# Altium footprint library BD136.PcbLib: 2 footprints
Each footprint in its own frame and in the unit in brackets; x right, y up, seen from the top. Pads: shape width x height; smd on the part's side, far side on the other; paste and mask are expansions set on the pad; w line width, h text height; cw(c..) or ccw(c..) is an arc to the next point about the centre after c.
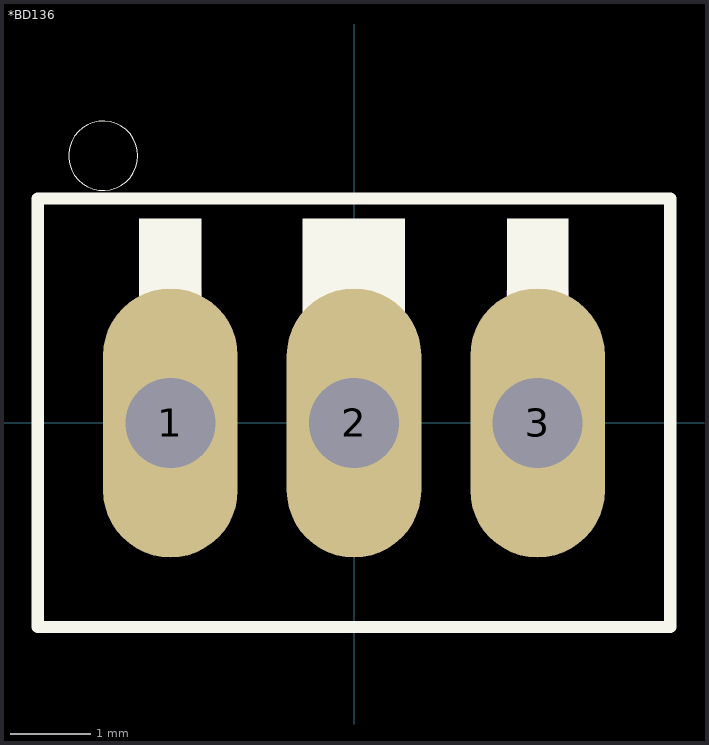
[diagram p0: the footprints below, top view; thin cyan lines are the x and y axes]

## *BD136 [mil]
pads (3):
  oval 66x132 hole 44: 1(-90,0) 2(0,0) 3(90,0)
Top Overlay:
  circle w0: c-123,131 r17
  region: 75.07,100 105,100 105,14.87 75.07,14.87
  region: -15.01,100 15,100 15,14.94 -15.01,14.94
  region: -105.17,100 -75,100 -75,14.78 -105.17,14.78
  region: -25.01,100 25,100 25,29.97 -25.01,29.97
  lines w6: -155,-100 155,-100 155,110 -155,110 -155,-100
Mechanical 13:
  region: 75.01,65 105,65 105,-5.03 75.01,-5.03
  region: -15.03,65 15,65 15,-5.36 -15.03,-5.36
  region: -105.01,65 -75,65 -75,-5.02 -105.01,-5.02
  region: 75.01,65 105,65 105,-5.03 75.01,-5.03
  region: -15.03,65 15,65 15,-5.36 -15.03,-5.36
  region: -105.01,65 -75,65 -75,-5.02 -105.01,-5.02
  text "3" at 70.12,105.1 h73.82
  text "2" at -20.01,105.14 h73.82
  text "1" at -100.04,105.14 h73.82
  text "3" at 70.12,105.1 h73.82
  text "2" at -20.01,105.14 h73.82
  text "1" at -100.04,105.14 h73.82

## PCBComponent_1 [mil]